# Altium schematic symbol library VEJ471M1CTR-0810.Schlib: 1 symbol
Pins are listed as number, name and electrical type; pins without a type are passive.

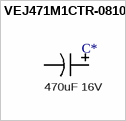
[diagram p0: symbol VEJ471M1CTR-0810]

## VEJ471M1CTR-0810
designator C*  value 470uF 16V  (hidden comment: *)
470uF ±20% 16V SMD,8x10mm Aluminum Electrolytic Capacitors - SMD RoHS; ComponentLink1Description: LCSC - Lelon VEJ471M1CTR-0810; ComponentLink1URL: https://lcsc.com/product-detail/Aluminum-Electrolytic-Capacitors-SMD_Lelon-VEJ471M1CTR-0810_C176671.html/?href=jlc-SMT; LCSC Part #: C176671; JLCPCB Part Type: Extended
footprint CAP ALSMD POLY 8.3MM H10.0MM (Aluminum Electrolytic Capacitor, Body 8.30x8.30x10.0mm)
pins: 1, 2